# Altium schematic symbol library Quetel vts lib .SchLib: 1 symbol
Pins are listed as number, name and electrical type; pins without a type are passive.

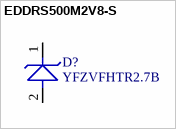
[diagram p0: symbol EDDRS500M2V8-S]

## EDDRS500M2V8-S
designator D?, comment value YFZVFHTR2.7B  (hidden comment: Zener Diode 2.8V 500mW ±3.93% Surface Mount TUMD2M)
Manufacturer: Rohm Semiconductor; Vendor Part Number: YFZVFHTR2.7BCT-ND; Internal Part Number: EDDRS500M2V8-S; Vendor Name: Digi-Key; 3rd Auxiliary Field: RoHS Compliant; 4th Auxiliary Field: AEC-Q101; Component Height (mm): 0.8mm; Temp Co: 150°C (TJ); Part Type: Zener Diode 2.8V 500mW ±3.93% Surface Mount TUMD2M; 2nd Auxiliary Field: 500mW; 1st Auxiliary Field: 2.8V; Manufacturer Part Number: YFZVFHTR2.7B
footprint DIO_YFZVFHTR2.2B
pins: 1 Cathode, 2 Anode